# Altium schematic symbol library LT1461DHS8-5.Schlib: 1 symbol
Pins are listed as number, name and electrical type; pins without a type are passive.

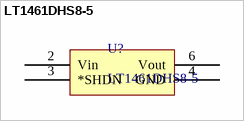
[diagram p0: symbol LT1461DHS8-5]

## LT1461DHS8-5
designator U?
5V Precision Voltage Reference
pins: 2 Vin, 3 *SHDN, 4 GND, 6 Vout